# Altium footprint library Connector_Coaxial.PcbLib: 37 footprints (part 3 of 3)
Each footprint in its own frame and in the unit in brackets; x right, y up, seen from the top. Pads: shape width x height; smd on the part's side, far side on the other; paste and mask are expansions set on the pad; w line width, h text height; cw(c..) or ccw(c..) is an arc to the next point about the centre after c.
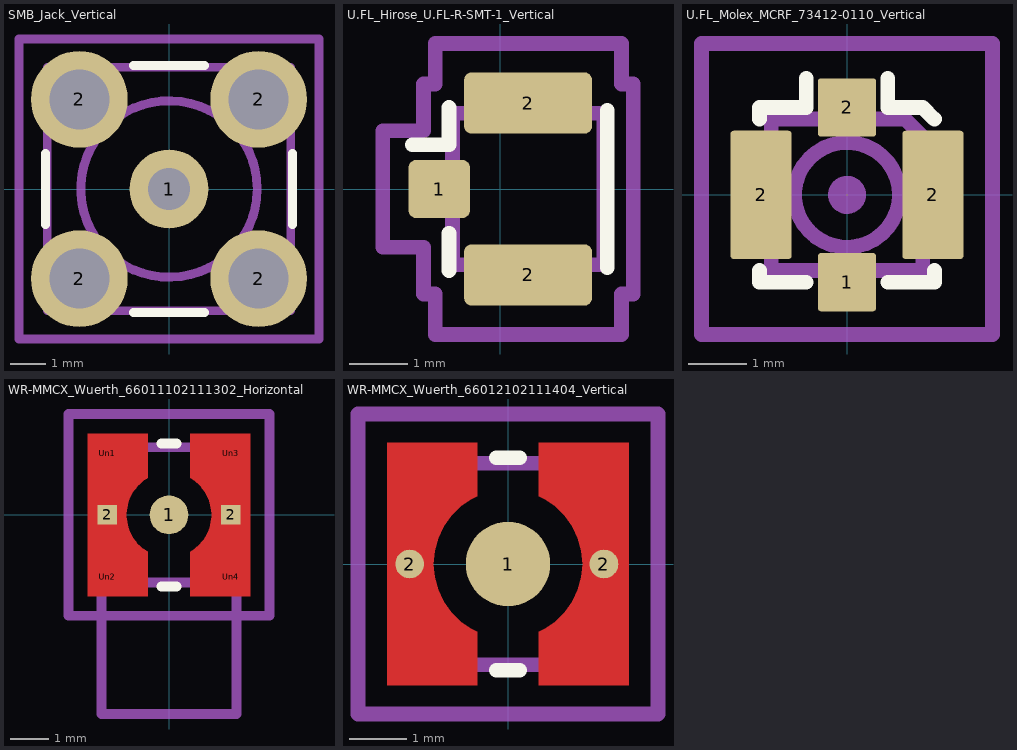
[diagram p2: the footprints below, top view; thin cyan lines are the x and y axes]

## SMB_Jack_Vertical [mm]
pads (5):
  round 2.24 hole 1.2: 1(0,0)
  round 2.74 hole 1.7: 2(-2.54,-2.54) 2(-2.54,2.54) 2(2.54,-2.54) 2(2.54,2.54)
F.SilkS:
  lines w0.254: -3.505,-1 -3.505,1 ; -1,-3.505 1,-3.505 ; -1,3.505 1,3.505 ; 3.505,-1 3.505,1
Top Assembly:
  circle w0.254: c0,0 r2.5
  lines w0.254: -3.45,-3.45 3.45,-3.45 3.45,3.45 -3.45,3.45 -3.45,-3.45
  text "'.Designator'" at -4.047,-0.84 h1
Top Courtyard:
  lines w0.254: -4.25,-4.25 4.25,-4.25 4.25,4.25 -4.25,4.25 -4.25,-4.25
Bottom Courtyard:
  lines w0.254: -4.25,-4.25 4.25,-4.25 4.25,4.25 -4.25,4.25 -4.25,-4.25
Top Designator:
  text ".Designator" at -7.618,-0.508 h1.52

## U.FL_Hirose_U.FL-R-SMT-1_Vertical [mm]
pads (3):
  rrect25% 1.05x1 smd: 1(-1.05,0)
  rrect24% 2.2x1.05 smd: 2(0.475,-1.475) 2(0.475,1.475)
F.SilkS:
  lines w0.254: -1.515,0.76 -0.885,0.76 -0.885,1.4 ; -0.885,-1.4 -0.885,-0.76 ; 1.835,-1.35 1.835,1.35
F.Mask:
  lines w0.254: -0.515,-0.94 -0.515,0.94 1.575,0.94 1.575,-0.94 -0.515,-0.94
Top Assembly:
  lines w0.254: -1.075,-0.3 -1.075,0.15 -0.925,0.3 -0.825,0.3 -0.825,1.3 -0.425,1.3 -0.425,1.5 1.375,1.5 1.375,1.3 1.775,1.3 1.775,-1.3 1.375,-1.3 1.375,-1.5 -0.425,-1.5 -0.425,-1.3 -0.825,-1.3 -0.825,-0.3 -1.075,-0.3
  text "'.Designator'" at 0.979,-2.428 h0.6
Top Courtyard:
  lines w0.254: -2.02,-1 -2.02,1 -1.32,1 -1.32,1.8 -1.12,1.8 -1.12,2.5 2.08,2.5 2.08,1.8 2.28,1.8 2.28,-1.8 2.08,-1.8 2.08,-2.5 -1.12,-2.5 -1.12,-1.8 -1.32,-1.8 -1.32,-1 -2.02,-1
Top Designator:
  text ".Designator" at -7.488,-0.508 h1.52

## U.FL_Molex_MCRF_73412-0110_Vertical [mm]
pads (4):
  rrect10% 1x1 smd: 1(0,-1.5) 2(0,1.5)
  rrect10% 1.05x2.2 smd: 2(-1.475,0) 2(1.475,0)
F.SilkS:
  lines w0.254: -1.5,-1.3 -1.5,-1.5 -0.7,-1.5 ; -1.5,1.3 -1.5,1.5 -0.7,1.5 -0.7,2 ; 0.7,-1.5 1.5,-1.5 1.5,-1.3 ; 0.7,2 0.7,1.5 1.3,1.5 1.5,1.3
Top Assembly:
  circle w0.254: c0,0 r0.9
  circle w0.254: c0,0 r0.2
  circle w0.254: c0,0 r0.125
  circle w0.254: c0,0 r0.05
  lines w0.254: -0.3,1.3 0,1 0.3,1.3 ; -1.3,-1.3 -1.3,1.3 1,1.3 1.3,1 1.3,-1.3 -1.3,-1.3
  text "'.Designator'" at -4.047,-4.34 h1
Top Courtyard:
  lines w0.254: -2.5,-2.4 -2.5,2.6 2.5,2.6 2.5,-2.4 -2.5,-2.4
Top Designator:
  text ".Designator" at -7.768,-1.556 h1.52
3D body "U.FL_Hirose_U.FL-R-SMT-1_Vertical.step": height 1.25, standoff 0, extent -1.5,-1.55 1.5,1.55

## WR-MMCX_Wuerth_66011102111302_Horizontal [mm]
pads (7):
  round 1 smd: 1(0,0)
  rect 0.5x0.5 smd: 2(-1.6,0) 2(1.6,0)
  rect 0.5x0.5 on Top Paste: Un1(-1.6,1.6) Un2(-1.6,-1.6) Un3(1.6,1.6) Un4(1.6,-1.6)
F.Cu:
  region: 2.1,-2.1 0.55,-2.1 0.55,-0.955 0.58,-0.935 0.625,-0.905 0.66,-0.88 0.71,-0.84 0.76,-0.795 0.805,-0.75 0.84,-0.71 0.865,-0.68 0.895,-0.64 0.935,-0.58 0.965,-0.53 0.99,-0.48 1.025,-0.4 1.05,-0.33 1.07,-0.255 1.085,-0.18 1.095,-0.11 1.1,-0.03 1.1,0.03 1.095,0.11 1.085,0.18 1.07,0.255 1.055,0.315 1.025,0.4 0.995,0.47 0.95,0.555 0.92,0.605 0.865,0.68 0.815,0.74 0.755,0.8 0.705,0.845 0.66,0.88 0.605,0.92 0.55,0.955 0.55,2.1 2.1,2.1
  region: -0.55,0.955 -0.58,0.935 -0.625,0.905 -0.66,0.88 -0.71,0.84 -0.76,0.795 -0.805,0.75 -0.84,0.71 -0.865,0.68 -0.895,0.64 -0.935,0.58 -0.965,0.53 -0.99,0.48 -1.025,0.4 -1.05,0.33 -1.07,0.255 -1.085,0.18 -1.095,0.11 -1.1,0.03 -1.1,-0.03 -1.095,-0.11 -1.085,-0.18 -1.07,-0.255 -1.055,-0.315 -1.025,-0.4 -0.995,-0.47 -0.95,-0.555 -0.92,-0.605 -0.865,-0.68 -0.815,-0.74 -0.755,-0.8 -0.705,-0.845 -0.66,-0.88 -0.605,-0.92 -0.55,-0.955 -0.55,-2.1 -2.1,-2.1 -2.1,2.1 -0.55,2.1
F.SilkS:
  lines w0.254: -0.2,-1.85 0.2,-1.85 ; -0.2,1.85 0.2,1.85
F.Paste:
  region: 2.1,-2.1 0.55,-2.1 0.55,-0.955 0.555,-0.95 0.605,-0.92 0.68,-0.865 0.74,-0.815 0.8,-0.755 0.845,-0.705 0.88,-0.66 0.92,-0.605 0.955,-0.55 2.1,-0.55
  region: 2.1,0.55 0.955,0.55 0.95,0.555 0.92,0.605 0.865,0.68 0.815,0.74 0.755,0.8 0.705,0.845 0.66,0.88 0.605,0.92 0.55,0.955 0.55,2.1 2.1,2.1
  region: -0.95,-0.555 -0.92,-0.605 -0.865,-0.68 -0.815,-0.74 -0.755,-0.8 -0.705,-0.845 -0.66,-0.88 -0.605,-0.92 -0.55,-0.955 -0.55,-2.1 -2.1,-2.1 -2.1,-0.55 -0.955,-0.55
  region: -0.55,0.955 -0.555,0.95 -0.605,0.92 -0.68,0.865 -0.74,0.815 -0.8,0.755 -0.845,0.705 -0.88,0.66 -0.92,0.605 -0.955,0.55 -2.1,0.55 -2.1,2.1 -0.55,2.1
F.Mask:
  region: 2.1,-2.1 0.55,-2.1 0.55,-0.955 0.58,-0.935 0.625,-0.905 0.66,-0.88 0.71,-0.84 0.76,-0.795 0.805,-0.75 0.84,-0.71 0.865,-0.68 0.895,-0.64 0.935,-0.58 0.965,-0.53 0.99,-0.48 1.025,-0.4 1.05,-0.33 1.07,-0.255 1.085,-0.18 1.095,-0.11 1.1,-0.03 1.1,0.03 1.095,0.11 1.085,0.18 1.07,0.255 1.055,0.315 1.025,0.4 0.995,0.47 0.95,0.555 0.92,0.605 0.865,0.68 0.815,0.74 0.755,0.8 0.705,0.845 0.66,0.88 0.605,0.92 0.55,0.955 0.55,2.1 2.1,2.1
  region: -0.55,0.955 -0.58,0.935 -0.625,0.905 -0.66,0.88 -0.71,0.84 -0.76,0.795 -0.805,0.75 -0.84,0.71 -0.865,0.68 -0.895,0.64 -0.935,0.58 -0.965,0.53 -0.99,0.48 -1.025,0.4 -1.05,0.33 -1.07,0.255 -1.085,0.18 -1.095,0.11 -1.1,0.03 -1.1,-0.03 -1.095,-0.11 -1.085,-0.18 -1.07,-0.255 -1.055,-0.315 -1.025,-0.4 -0.995,-0.47 -0.95,-0.555 -0.92,-0.605 -0.865,-0.68 -0.815,-0.74 -0.755,-0.8 -0.705,-0.845 -0.66,-0.88 -0.605,-0.92 -0.55,-0.955 -0.55,-2.1 -2.1,-2.1 -2.1,2.1 -0.55,2.1
Top Assembly:
  lines w0.254: -1.75,-1.75 1.75,-1.75 ; -1.75,-1.75 -1.75,-5.15 1.75,-5.15 1.75,-1.75 ; -1.75,-1.75 -1.75,1.75 1.75,1.75 1.75,-1.75
  text "'.Designator'" at -3.267,-0.702 h0.8
Top Courtyard:
  lines w0.254: -2.6,-2.61 2.6,-2.61 2.6,2.61 -2.6,2.61 -2.6,-2.61
Top Designator:
  text ".Designator" at -7.768,-1.778 h1.52

## WR-MMCX_Wuerth_66012102111404_Vertical [mm]
pads (3):
  round 1.47 smd: 1(0,0)
  round 0.5 smd: 2(-1.71,0) 2(1.67,0)
F.Cu:
  region: -0.535,1.179 -0.638,1.13 -0.826,1.001 -0.989,0.84 -1.121,0.654 -1.218,0.448 -1.278,0.227 -1.298,0 -1.278,-0.227 -1.218,-0.448 -1.121,-0.654 -0.989,-0.84 -0.826,-1.001 -0.638,-1.13 -0.535,-1.179 -0.535,-2.11 -2.105,-2.11 -2.105,2.11 -0.535,2.11
  region: 2.105,-2.11 0.535,-2.11 0.535,-1.179 0.638,-1.13 0.826,-1.001 0.989,-0.84 1.121,-0.654 1.218,-0.448 1.278,-0.227 1.298,0 1.278,0.227 1.218,0.448 1.121,0.654 0.989,0.84 0.826,1.001 0.638,1.13 0.535,1.179 0.535,2.11 2.105,2.11
F.SilkS:
  lines w0.254: -0.2,-1.85 0.2,-1.85 ; -0.2,1.85 0.2,1.85
F.Paste:
  region: -0.535,1.179 -0.64,1.129 -0.832,0.996 -0.996,0.832 -1.129,0.64 -1.179,0.535 -2.105,0.535 -2.105,2.11 -0.535,2.11
  region: -1.129,-0.64 -0.996,-0.832 -0.832,-0.996 -0.64,-1.129 -0.535,-1.179 -0.535,-2.11 -2.105,-2.11 -2.105,-0.535 -1.179,-0.535
  region: 2.105,0.535 1.179,0.535 1.129,0.64 0.996,0.832 0.832,0.996 0.64,1.129 0.535,1.179 0.535,2.11 2.105,2.11
  region: 2.105,-2.11 0.535,-2.11 0.535,-1.179 0.64,-1.129 0.832,-0.996 0.996,-0.832 1.129,-0.64 1.179,-0.535 2.105,-0.535
F.Mask:
  region: -0.535,1.179 -0.638,1.13 -0.826,1.001 -0.989,0.84 -1.121,0.654 -1.218,0.448 -1.278,0.227 -1.298,0 -1.278,-0.227 -1.218,-0.448 -1.121,-0.654 -0.989,-0.84 -0.826,-1.001 -0.638,-1.13 -0.535,-1.179 -0.535,-2.11 -2.105,-2.11 -2.105,2.11 -0.535,2.11
  region: 2.105,-2.11 0.535,-2.11 0.535,-1.179 0.638,-1.13 0.826,-1.001 0.989,-0.84 1.121,-0.654 1.218,-0.448 1.278,-0.227 1.298,0 1.278,0.227 1.218,0.448 1.121,0.654 0.989,0.84 0.826,1.001 0.638,1.13 0.535,1.179 0.535,2.11 2.105,2.11
Top Assembly:
  lines w0.254: -1.75,-1.75 -1.75,1.75 1.75,1.75 1.75,-1.75 -1.75,-1.75
  text "'.Designator'" at -3.267,-0.702 h0.8
Top Courtyard:
  lines w0.254: -2.61,-2.61 -2.61,2.61 2.61,2.61 2.61,-2.61 -2.61,-2.61
Top Designator:
  text ".Designator" at -7.768,-0.508 h1.52